# EAGLE library part SM10B-SRSS (library con-JST SH)
JST SH series header 1.00mm pitch disconnectable crimp style connectors, horizontal (side entry type), 10 pins
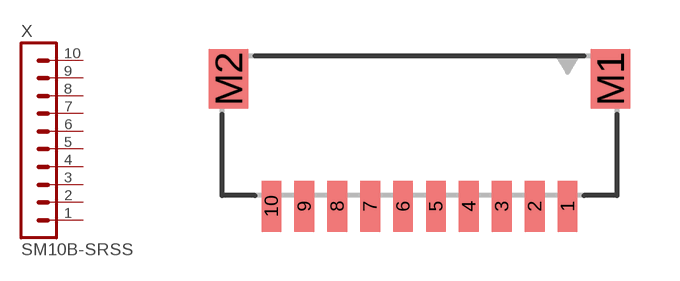
[diagram p14: symbol with the pads of SM10B-SRSS-TB; footprint SM10B-SRSS-TB]

Designator prefix X

## SM10B-SRSS-TB  [SM10B-SRSS-TB]
1  1  pas
2  2  pas
3  3  pas
4  4  pas
5  5  pas
6  6  pas
7  7  pas
8  8  pas
9  9  pas
10  10  pas

## Footprint SM10B-SRSS-TB (pad centres in mm)
JST SH series header 1.00mm pitch disconnectable crimp style connectors, SMT horizontal (side entry type), 10 pins
smd 0.6 x 1.55: 1 4.5,0; 2 3.5,0; 3 2.5,0; 4 1.5,0; 5 0.5,0; 6 -0.5,0; 7 -1.5,0; 8 -2.5,0; 9 -3.5,0; 10 -4.5,0
smd 1.2 x 1.8: M1 5.8,3.875; M2 -5.8,3.875